# Altium schematic symbol library B2B-XH-A_(LF)(SN).SchLib: 1 symbol
Pins are listed as number, name and electrical type; pins without a type are passive.

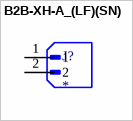
[diagram p0: symbol B2B-XH-A_(LF)(SN)]

## B2B-XH-A_(LF)(SN)
designator J?
Connector Header Through Hole 2 position 0.098 (2.50mm); MF: JST Sales; MP: B2B-XH-A (LF)(SN); SnapEDA_Link: https://www.snapeda.com/parts/B2B-XH-A%20(LF)(SN)/JST+Sales+America+Inc./view-part/?ref=snap; Package: None; Value: *; Check_prices: https://www.snapeda.com/parts/B2B-XH-A%20(LF)(SN)/JST+Sales+America+Inc./view-part/?ref=eda; LCSC part #: C19271386
footprint JST_B2B-XH-A_(LF)(SN)
pins: 1, 2